# Altium schematic symbol library RS485.SchLib: 8 symbols
Pins are listed as number, name and electrical type; pins without a type are passive.

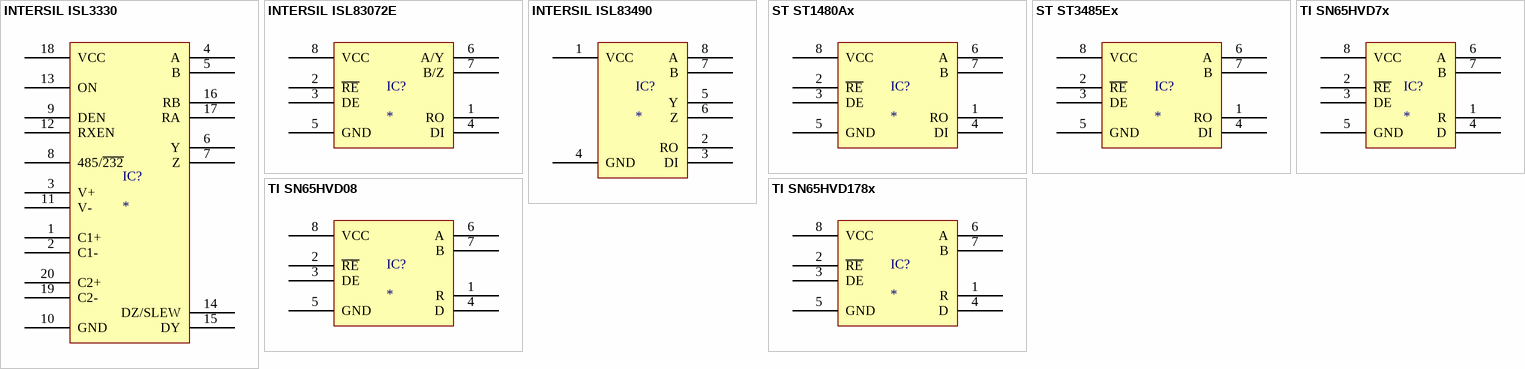
[diagram p0: symbols INTERSIL ISL3330 to TI SN65HVD178x]

## INTERSIL ISL3330
designator IC?
pins: 1 C1+, 2 C1-, 3 V+, 4 A, 5 B, 6 Y, 7 Z, 8 485/~{232}, 9 DEN, 10 GND, 11 V-, 12 RXEN, 13 ON, 14 DZ/SLEW, 15 DY, 16 RB, 17 RA, 18 VCC, 19 C2-, 20 C2+

## INTERSIL ISL83072E
designator IC?
footprint INTERSIL SOIC-8 M8.15 (SOIC, 8-Leads, Body 4.90x3.90mm, Pitch 1.27mm, IPC Medium Density)
pins: 1 RO, 2 ~{RE}, 3 DE, 4 DI, 5 GND, 6 A/Y, 7 B/Z, 8 VCC

## INTERSIL ISL83490
designator IC?
pins: 1 VCC, 2 RO, 3 DI, 4 GND, 5 Y, 6 Z, 7 B, 8 A

## ST ST1480Ax
designator IC?
footprint ST SOIC-8N (SOIC, 8-Leads, Body 4.90x3.90mm, Pitch 1.27mm, IPC Medium Density)
pins: 1 RO, 2 ~{RE}, 3 DE, 4 DI, 5 GND, 6 A, 7 B, 8 VCC

## ST ST3485Ex
designator IC?
footprint ST SOIC-8N (SOIC, 8-Leads, Body 4.90x3.90mm, Pitch 1.27mm, IPC Medium Density)
pins: 1 RO, 2 ~{RE}, 3 DE, 4 DI, 5 GND, 6 A, 7 B, 8 VCC

## TI SN65HVD7x
designator IC?
footprint TI SOIC-8 D (SOP, 8-Leads, Body 4.90x3.90mm, Pitch 1.27mm, IPC Medium Density)
pins: 1 R, 2 ~{RE}, 3 DE, 4 D, 5 GND, 6 A, 7 B, 8 VCC

## TI SN65HVD08
designator IC?
footprint TI SOIC-8 D (SOP, 8-Leads, Body 4.90x3.90mm, Pitch 1.27mm, IPC Medium Density)
pins: 1 R, 2 ~{RE}, 3 DE, 4 D, 5 GND, 6 A, 7 B, 8 VCC

## TI SN65HVD178x
designator IC?
footprint TI SOIC-8 D (SOP, 8-Leads, Body 4.90x3.90mm, Pitch 1.27mm, IPC Medium Density)
pins: 1 R, 2 ~{RE}, 3 DE, 4 D, 5 GND, 6 A, 7 B, 8 VCC